# Altium footprint library Symbol.PcbLib: 206 footprints (part 8 of 15)
Each footprint in its own frame and in the unit in brackets; x right, y up, seen from the top. Pads: shape width x height; smd on the part's side, far side on the other; paste and mask are expansions set on the pad; w line width, h text height; cw(c..) or ccw(c..) is an arc to the next point about the centre after c.
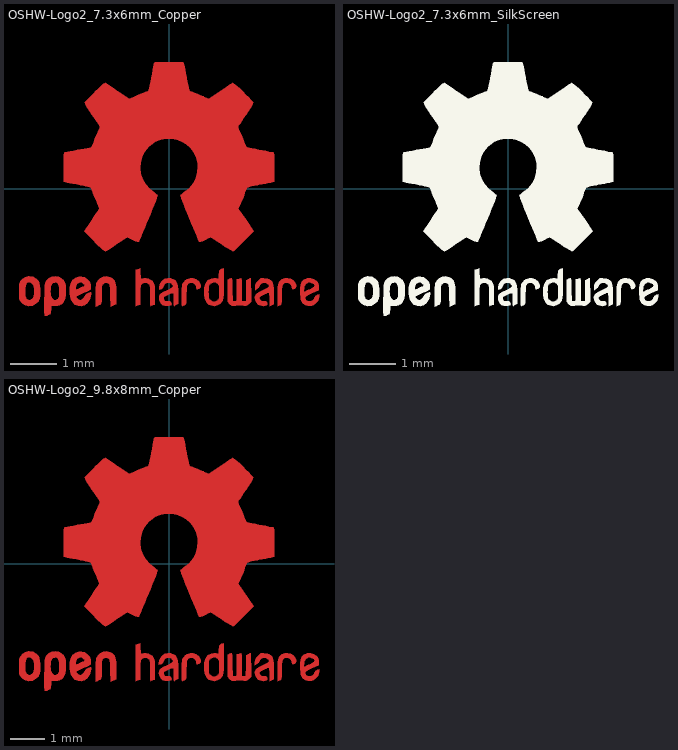
[diagram p7: the footprints below, top view; thin cyan lines are the x and y axes]

## LayerMarker_24_31.8x2.54mm_TextH1mm_P1.27mm_AlNum_LowerMirrored [mm]
F.Cu:
  text "1" at -0.319,0.57 h1
B.Cu:
  text "O" at 29.791,0.57 h1

## LayerMarker_26_34.3x2.54mm_TextH1mm_P1.27mm_AlNum [mm]
F.Cu:
  text "1" at -0.319,0.57 h1
B.Cu:
  text "Q" at 31.169,0.522 h1

## LayerMarker_26_34.3x2.54mm_TextH1mm_P1.27mm_AlNum_BottomMirrored [mm]
F.Cu:
  text "1" at -0.319,0.57 h1
B.Cu:
  text "Q" at 32.331,0.522 h1

## LayerMarker_26_34.3x2.54mm_TextH1mm_P1.27mm_AlNum_LowerMirrored [mm]
F.Cu:
  text "1" at -0.319,0.57 h1
B.Cu:
  text "Q" at 32.331,0.522 h1

## LayerMarker_28_36.8x2.54mm_TextH1mm_P1.27mm_AlNum [mm]
F.Cu:
  text "1" at -0.319,0.57 h1
B.Cu:
  text "S" at 33.757,0.57 h1

## LayerMarker_28_36.8x2.54mm_TextH1mm_P1.27mm_AlNum_BottomMirrored [mm]
F.Cu:
  text "1" at -0.319,0.57 h1
B.Cu:
  text "S" at 34.823,0.57 h1

## LayerMarker_28_36.8x2.54mm_TextH1mm_P1.27mm_AlNum_LowerMirrored [mm]
F.Cu:
  text "1" at -0.319,0.57 h1
B.Cu:
  text "S" at 34.823,0.57 h1

## LayerMarker_30_39.4x2.54mm_TextH1mm_P1.27mm_AlNum [mm]
F.Cu:
  text "1" at -0.319,0.57 h1
B.Cu:
  text "U" at 36.297,0.57 h1

## LayerMarker_30_39.4x2.54mm_TextH1mm_P1.27mm_AlNum_BottomMirrored [mm]
F.Cu:
  text "1" at -0.319,0.57 h1
B.Cu:
  text "U" at 37.363,0.57 h1

## LayerMarker_30_39.4x2.54mm_TextH1mm_P1.27mm_AlNum_LowerMirrored [mm]
F.Cu:
  text "1" at -0.319,0.57 h1
B.Cu:
  text "U" at 37.363,0.57 h1

## LayerMarker_32_41.9x2.54mm_TextH1mm_P1.27mm_AlNum [mm]
F.Cu:
  text "1" at -0.319,0.57 h1
B.Cu:
  text "W" at 38.694,0.57 h1

## LayerMarker_32_41.9x2.54mm_TextH1mm_P1.27mm_AlNum_BottomMirrored [mm]
F.Cu:
  text "1" at -0.319,0.57 h1
B.Cu:
  text "W" at 40.046,0.57 h1

## LayerMarker_32_41.9x2.54mm_TextH1mm_P1.27mm_AlNum_LowerMirrored [mm]
F.Cu:
  text "1" at -0.319,0.57 h1
B.Cu:
  text "W" at 40.046,0.57 h1

## OSHW-Logo2_7.3x6mm_Copper [mm]
F.Cu:
  region: 2.653,-1.959 2.67,-1.966 2.711,-1.999 2.747,-2.047 2.769,-2.097 2.772,-2.122 2.76,-2.157 2.734,-2.175 2.706,-2.187 2.693,-2.189 2.687,-2.174 2.674,-2.141 2.669,-2.127 2.639,-2.076 2.595,-2.05 2.538,-2.051 2.534,-2.052 2.504,-2.067 2.481,-2.094 2.466,-2.139 2.457,-2.205 2.453,-2.294 2.453,-2.341 2.453,-2.416 2.452,-2.467 2.448,-2.499 2.442,-2.518 2.432,-2.529 2.417,-2.537 2.416,-2.538 2.387,-2.55 2.372,-2.555 2.37,-2.541 2.368,-2.503 2.367,-2.446 2.366,-2.374 2.366,-2.322 2.367,-2.22 2.37,-2.143 2.377,-2.086 2.389,-2.045 2.407,-2.014 2.432,-1.99 2.457,-1.973 2.517,-1.951 2.587,-1.946
  region: -1.284,-1.928 -1.237,-1.955 -1.205,-1.981 -1.181,-2.009 -1.165,-2.044 -1.155,-2.089 -1.149,-2.151 -1.147,-2.234 -1.147,-2.293 -1.147,-2.512 -1.208,-2.54 -1.27,-2.568 -1.277,-2.328 -1.28,-2.238 -1.283,-2.173 -1.287,-2.128 -1.293,-2.099 -1.3,-2.081 -1.31,-2.07 -1.313,-2.067 -1.36,-2.048 -1.408,-2.056 -1.437,-2.076 -1.449,-2.09 -1.457,-2.108 -1.462,-2.136 -1.465,-2.179 -1.466,-2.242 -1.466,-2.307 -1.466,-2.389 -1.467,-2.447 -1.472,-2.486 -1.482,-2.512 -1.499,-2.528 -1.525,-2.541 -1.56,-2.554 -1.598,-2.569 -1.594,-2.311 -1.592,-2.219 -1.59,-2.15 -1.587,-2.101 -1.582,-2.066 -1.575,-2.042 -1.566,-2.022 -1.554,-2.005 -1.499,-1.95 -1.431,-1.918 -1.357,-1.91
  region: 0.53,-1.95 0.596,-1.974 0.649,-2.017 0.67,-2.047 0.693,-2.103 0.692,-2.143 0.669,-2.17 0.66,-2.175 0.622,-2.189 0.602,-2.185 0.595,-2.161 0.595,-2.148 0.583,-2.099 0.551,-2.065 0.508,-2.048 0.459,-2.053 0.419,-2.074 0.405,-2.087 0.396,-2.101 0.389,-2.124 0.385,-2.159 0.383,-2.212 0.381,-2.288 0.38,-2.312 0.378,-2.394 0.376,-2.451 0.372,-2.49 0.367,-2.513 0.359,-2.526 0.347,-2.535 0.339,-2.538 0.307,-2.55 0.288,-2.555 0.282,-2.541 0.278,-2.5 0.277,-2.431 0.278,-2.334 0.278,-2.319 0.28,-2.23 0.283,-2.165 0.286,-2.119 0.292,-2.087 0.3,-2.064 0.311,-2.044 0.317,-2.035 0.35,-1.998 0.388,-1.969 0.392,-1.966 0.459,-1.946
  region: -0.624,-1.851 -0.62,-1.911 -0.615,-1.946 -0.608,-1.961 -0.598,-1.961 -0.595,-1.959 -0.552,-1.946 -0.497,-1.947 -0.44,-1.96 -0.405,-1.978 -0.369,-2.006 -0.342,-2.038 -0.324,-2.078 -0.313,-2.132 -0.307,-2.204 -0.305,-2.299 -0.305,-2.317 -0.305,-2.523 -0.351,-2.539 -0.383,-2.549 -0.401,-2.554 -0.401,-2.555 -0.403,-2.541 -0.405,-2.503 -0.406,-2.446 -0.406,-2.375 -0.406,-2.332 -0.407,-2.247 -0.408,-2.186 -0.41,-2.144 -0.415,-2.117 -0.422,-2.098 -0.433,-2.085 -0.44,-2.078 -0.487,-2.051 -0.538,-2.049 -0.584,-2.072 -0.593,-2.08 -0.605,-2.095 -0.614,-2.114 -0.619,-2.14 -0.622,-2.18 -0.624,-2.238 -0.624,-2.318 -0.624,-2.523 -0.67,-2.539 -0.702,-2.549 -0.72,-2.554 -0.721,-2.555 -0.722,-2.541 -0.723,-2.501 -0.724,-2.441 -0.725,-2.362 -0.726,-2.269 -0.726,-2.167 -0.726,-1.769 -0.679,-1.749 -0.631,-1.73
  region: 1.78,-1.959 1.782,-1.997 1.784,-2.055 1.785,-2.128 1.785,-2.205 1.785,-2.465 1.739,-2.511 1.708,-2.539 1.68,-2.551 1.642,-2.55 1.627,-2.548 1.58,-2.543 1.541,-2.54 1.531,-2.54 1.499,-2.541 1.453,-2.546 1.436,-2.548 1.392,-2.552 1.363,-2.544 1.334,-2.521 1.323,-2.511 1.277,-2.465 1.277,-1.979 1.314,-1.962 1.346,-1.949 1.365,-1.945 1.369,-1.959 1.374,-1.997 1.378,-2.056 1.381,-2.132 1.382,-2.195 1.386,-2.446 1.421,-2.451 1.452,-2.447 1.468,-2.436 1.472,-2.415 1.476,-2.371 1.478,-2.309 1.48,-2.235 1.48,-2.197 1.48,-1.977 1.526,-1.961 1.559,-1.95 1.576,-1.945 1.577,-1.945 1.578,-1.959 1.58,-1.997 1.582,-2.054 1.584,-2.127 1.585,-2.195 1.589,-2.446 1.676,-2.446 1.68,-2.217 1.684,-1.989 1.727,-1.967 1.758,-1.952 1.777,-1.945
  region: -2.959,-1.922 -2.891,-1.958 -2.841,-2.015 -2.823,-2.052 -2.809,-2.108 -2.802,-2.178 -2.801,-2.255 -2.807,-2.33 -2.818,-2.394 -2.834,-2.441 -2.839,-2.449 -2.9,-2.509 -2.971,-2.545 -3.049,-2.555 -3.127,-2.539 -3.149,-2.529 -3.192,-2.499 -3.229,-2.459 -3.233,-2.454 -3.247,-2.43 -3.257,-2.404 -3.262,-2.37 -3.265,-2.321 -3.266,-2.251 -3.266,-2.235 -3.266,-2.23 -3.265,-2.16 -3.263,-2.108 -3.258,-2.072 -3.249,-2.045 -3.236,-2.022 -3.233,-2.017 -3.184,-1.958 -3.13,-1.924 -3.064,-1.91 -3.042,-1.91 hole: -3.037,-2.047 -3.073,-2.052 -3.097,-2.072 -3.112,-2.109 -3.119,-2.168 -3.121,-2.23 -3.12,-2.296 -3.116,-2.34 -3.109,-2.369 -3.098,-2.388 -3.092,-2.395 -3.057,-2.42 -3.023,-2.419 -2.989,-2.397 -2.969,-2.374 -2.957,-2.34 -2.95,-2.288 -2.949,-2.281 -2.948,-2.186 -2.96,-2.114 -2.985,-2.068 -3.023,-2.048
  region: 3.154,-1.967 3.211,-2.004 3.239,-2.038 3.261,-2.099 3.262,-2.147 3.258,-2.212 3.11,-2.277 3.037,-2.31 2.99,-2.337 2.966,-2.36 2.961,-2.383 2.975,-2.407 2.99,-2.424 3.034,-2.45 3.081,-2.452 3.125,-2.432 3.157,-2.391 3.163,-2.376 3.191,-2.331 3.222,-2.312 3.266,-2.296 3.266,-2.358 3.262,-2.4 3.247,-2.436 3.215,-2.477 3.211,-2.482 3.176,-2.519 3.145,-2.538 3.108,-2.547 3.076,-2.55 3.02,-2.551 2.981,-2.542 2.956,-2.528 2.917,-2.497 2.89,-2.465 2.873,-2.423 2.863,-2.368 2.86,-2.291 2.859,-2.253 2.86,-2.206 2.861,-2.162 2.868,-2.095 2.882,-2.047 2.904,-2.011 2.937,-1.983 2.951,-1.973 3.015,-1.95 3.085,-1.948 hole: 3.079,-2.046 3.03,-2.05 2.989,-2.078 2.961,-2.127 2.952,-2.166 2.948,-2.206 2.949,-2.231 2.952,-2.235 2.968,-2.23 3.004,-2.215 3.052,-2.194 3.062,-2.19 3.123,-2.159 3.157,-2.132 3.164,-2.106 3.146,-2.08 3.132,-2.069
  region: 1.19,-2.065 1.19,-2.174 1.189,-2.257 1.188,-2.32 1.185,-2.365 1.181,-2.397 1.175,-2.421 1.167,-2.439 1.161,-2.449 1.112,-2.506 1.049,-2.541 0.98,-2.554 0.911,-2.542 0.869,-2.522 0.826,-2.485 0.796,-2.441 0.779,-2.383 0.77,-2.306 0.769,-2.25 0.769,-2.246 0.773,-2.159 0.785,-2.09 0.807,-2.039 0.842,-1.998 0.869,-1.978 0.919,-1.956 0.976,-1.945 1.03,-1.948 1.06,-1.959 1.071,-1.962 1.079,-1.951 1.084,-1.919 1.089,-1.871 1.093,-1.817 1.099,-1.784 1.111,-1.766 1.131,-1.754 1.143,-1.748 1.19,-1.729 hole: 0.962,-2.049 0.914,-2.07 0.904,-2.078 0.889,-2.096 0.879,-2.117 0.873,-2.148 0.871,-2.196 0.871,-2.246 0.871,-2.311 0.874,-2.354 0.881,-2.382 0.893,-2.402 0.906,-2.417 0.953,-2.447 1.004,-2.449 1.051,-2.425 1.055,-2.421 1.071,-2.404 1.081,-2.383 1.086,-2.352 1.088,-2.305 1.089,-2.252 1.088,-2.185 1.085,-2.141 1.078,-2.112 1.066,-2.091 1.057,-2.08 1.013,-2.052
  region: -1.832,-1.931 -1.774,-1.97 -1.73,-2.025 -1.704,-2.096 -1.698,-2.148 -1.699,-2.17 -1.704,-2.187 -1.718,-2.201 -1.745,-2.218 -1.79,-2.239 -1.857,-2.269 -1.858,-2.27 -1.92,-2.298 -1.97,-2.323 -2.005,-2.342 -2.017,-2.353 -2.006,-2.376 -1.98,-2.402 -1.949,-2.42 -1.934,-2.424 -1.891,-2.411 -1.855,-2.379 -1.837,-2.345 -1.82,-2.319 -1.787,-2.29 -1.748,-2.264 -1.713,-2.25 -1.706,-2.25 -1.698,-2.262 -1.697,-2.294 -1.703,-2.337 -1.715,-2.383 -1.73,-2.423 -1.731,-2.424 -1.777,-2.489 -1.837,-2.533 -1.906,-2.555 -1.976,-2.552 -2.044,-2.524 -2.047,-2.522 -2.101,-2.473 -2.136,-2.41 -2.155,-2.327 -2.158,-2.304 -2.162,-2.194 -2.157,-2.143 -2.153,-2.106 -2.128,-2.036 -2.095,-1.987 -2.033,-1.938 -1.966,-1.913 -1.897,-1.912 hole: -1.946,-2.048 -1.984,-2.067 -2.01,-2.103 -2.017,-2.143 -2.016,-2.175 -2.006,-2.184 -1.981,-2.177 -1.942,-2.161 -1.899,-2.14 -1.898,-2.139 -1.861,-2.12 -1.846,-2.107 -1.85,-2.093 -1.865,-2.076 -1.904,-2.05
  region: 0.04,-1.951 0.097,-1.972 0.132,-1.998 0.158,-2.029 0.177,-2.068 0.189,-2.121 0.196,-2.194 0.2,-2.289 0.201,-2.303 0.206,-2.509 0.162,-2.532 0.13,-2.547 0.11,-2.554 0.11,-2.555 0.106,-2.541 0.104,-2.505 0.102,-2.451 0.102,-2.408 0.102,-2.339 0.098,-2.295 0.087,-2.274 0.064,-2.273 0.022,-2.289 -0.04,-2.318 -0.086,-2.342 -0.109,-2.363 -0.116,-2.386 -0.116,-2.387 -0.105,-2.426 -0.071,-2.447 -0.019,-2.451 0.018,-2.45 0.038,-2.461 0.05,-2.487 0.057,-2.519 0.047,-2.538 0.043,-2.541 0.007,-2.551 -0.043,-2.553 -0.095,-2.546 -0.132,-2.533 -0.183,-2.49 -0.212,-2.429 -0.218,-2.382 -0.213,-2.34 -0.198,-2.305 -0.166,-2.275 -0.115,-2.244 -0.041,-2.209 -0.036,-2.207 0.031,-2.176 0.072,-2.151 0.09,-2.128 0.086,-2.105 0.063,-2.078 0.056,-2.072 0.009,-2.048 -0.04,-2.049 -0.082,-2.072 -0.111,-2.116 -0.113,-2.124 -0.139,-2.165 -0.171,-2.185 -0.218,-2.205 -0.218,-2.154 -0.204,-2.08 -0.161,-2.012 -0.139,-1.99 -0.089,-1.961 -0.026,-1.947
  region: -2.4,-1.92 -2.345,-1.948 -2.296,-1.998 -2.282,-2.017 -2.268,-2.042 -2.258,-2.069 -2.253,-2.105 -2.25,-2.156 -2.25,-2.224 -2.252,-2.318 -2.261,-2.388 -2.277,-2.44 -2.303,-2.48 -2.34,-2.513 -2.342,-2.515 -2.379,-2.535 -2.422,-2.545 -2.478,-2.547 -2.569,-2.547 -2.569,-2.635 -2.57,-2.684 -2.575,-2.713 -2.588,-2.73 -2.614,-2.745 -2.62,-2.748 -2.649,-2.762 -2.672,-2.77 -2.688,-2.771 -2.7,-2.761 -2.707,-2.737 -2.712,-2.696 -2.713,-2.636 -2.713,-2.553 -2.712,-2.445 -2.711,-2.413 -2.71,-2.302 -2.709,-2.229 -2.708,-2.215 -2.706,-2.15 -2.704,-2.103 -2.7,-2.069 -2.694,-2.045 -2.687,-2.028 -2.677,-2.012 -2.673,-2.006 -2.619,-1.951 -2.55,-1.92 -2.47,-1.911 hole: -2.476,-2.047 -2.516,-2.054 -2.544,-2.078 -2.561,-2.123 -2.568,-2.191 -2.569,-2.229 -2.568,-2.29 -2.565,-2.331 -2.557,-2.358 -2.543,-2.378 -2.533,-2.388 -2.495,-2.418 -2.46,-2.42 -2.425,-2.396 -2.424,-2.395 -2.409,-2.376 -2.401,-2.351 -2.396,-2.312 -2.395,-2.252 -2.395,-2.238 -2.398,-2.156 -2.409,-2.099 -2.429,-2.064 -2.458,-2.048
  region: 2.145,-1.956 2.187,-1.975 2.219,-1.998 2.244,-2.024 2.26,-2.057 2.271,-2.103 2.276,-2.165 2.279,-2.249 2.279,-2.305 2.279,-2.521 2.242,-2.538 2.213,-2.55 2.198,-2.555 2.195,-2.541 2.193,-2.505 2.192,-2.452 2.192,-2.409 2.19,-2.348 2.187,-2.3 2.182,-2.271 2.178,-2.264 2.153,-2.271 2.112,-2.287 2.066,-2.309 2.021,-2.333 1.986,-2.355 1.97,-2.37 1.971,-2.397 1.984,-2.423 2.006,-2.444 2.038,-2.451 2.065,-2.451 2.104,-2.45 2.124,-2.459 2.136,-2.483 2.138,-2.488 2.143,-2.522 2.129,-2.543 2.092,-2.552 2.052,-2.554 1.981,-2.541 1.943,-2.521 1.898,-2.476 1.873,-2.42 1.871,-2.361 1.892,-2.306 1.923,-2.271 1.953,-2.252 2.002,-2.228 2.058,-2.203 2.068,-2.199 2.13,-2.172 2.166,-2.148 2.177,-2.124 2.167,-2.097 2.148,-2.076 2.104,-2.05 2.056,-2.048 2.012,-2.068 1.981,-2.108 1.977,-2.118 1.952,-2.156 1.917,-2.184 1.872,-2.207 1.872,-2.141 1.875,-2.102 1.886,-2.07 1.911,-2.036 1.935,-2.01 1.972,-1.974 2.001,-1.954 2.033,-1.946 2.068,-1.945
  region: 347 vertices and 0 holes, not listed, extent -2.293,-1.364 2.293,2.758

## OSHW-Logo2_7.3x6mm_SilkScreen [mm]
F.SilkS:
  drawing of 13 lines, arcs and shapes, not listed

## OSHW-Logo2_9.8x8mm_Copper [mm]
F.Cu:
  region: 3.571,-2.637 3.594,-2.647 3.65,-2.691 3.698,-2.755 3.727,-2.823 3.732,-2.857 3.716,-2.904 3.68,-2.928 3.643,-2.943 3.625,-2.946 3.617,-2.926 3.6,-2.882 3.593,-2.863 3.552,-2.794 3.493,-2.76 3.417,-2.761 3.411,-2.763 3.37,-2.782 3.34,-2.819 3.32,-2.88 3.308,-2.968 3.303,-3.088 3.302,-3.152 3.302,-3.252 3.3,-3.321 3.296,-3.365 3.287,-3.39 3.274,-3.405 3.253,-3.416 3.252,-3.416 3.213,-3.433 3.194,-3.439 3.191,-3.42 3.188,-3.369 3.186,-3.292 3.185,-3.196 3.185,-3.125 3.186,-2.989 3.19,-2.885 3.2,-2.808 3.216,-2.752 3.24,-2.711 3.274,-2.679 3.308,-2.656 3.388,-2.626 3.482,-2.62
  region: -1.728,-2.595 -1.666,-2.631 -1.622,-2.667 -1.59,-2.705 -1.568,-2.751 -1.554,-2.812 -1.547,-2.895 -1.544,-3.007 -1.544,-3.087 -1.544,-3.382 -1.71,-3.457 -1.719,-3.133 -1.723,-3.013 -1.728,-2.925 -1.733,-2.865 -1.74,-2.825 -1.75,-2.801 -1.763,-2.786 -1.767,-2.783 -1.831,-2.757 -1.896,-2.767 -1.934,-2.794 -1.95,-2.813 -1.961,-2.838 -1.968,-2.876 -1.972,-2.934 -1.973,-3.018 -1.973,-3.106 -1.973,-3.216 -1.975,-3.294 -1.982,-3.347 -1.995,-3.381 -2.018,-3.404 -2.053,-3.421 -2.1,-3.439 -2.152,-3.458 -2.146,-3.111 -2.143,-2.986 -2.14,-2.894 -2.136,-2.828 -2.13,-2.781 -2.121,-2.748 -2.108,-2.722 -2.092,-2.699 -2.018,-2.625 -1.926,-2.582 -1.827,-2.571
  region: 0.713,-2.625 0.802,-2.657 0.874,-2.715 0.902,-2.756 0.933,-2.831 0.932,-2.885 0.9,-2.921 0.888,-2.928 0.837,-2.947 0.81,-2.942 0.802,-2.91 0.801,-2.892 0.785,-2.826 0.742,-2.78 0.683,-2.758 0.617,-2.763 0.564,-2.792 0.546,-2.809 0.533,-2.829 0.524,-2.859 0.519,-2.907 0.515,-2.978 0.512,-3.08 0.511,-3.112 0.509,-3.222 0.506,-3.3 0.501,-3.351 0.494,-3.383 0.483,-3.401 0.467,-3.412 0.457,-3.417 0.413,-3.433 0.388,-3.439 0.379,-3.421 0.374,-3.365 0.372,-3.272 0.374,-3.141 0.374,-3.121 0.377,-3.002 0.381,-2.914 0.386,-2.853 0.393,-2.809 0.404,-2.778 0.419,-2.751 0.427,-2.74 0.472,-2.69 0.522,-2.651 0.528,-2.647 0.618,-2.62
  region: -0.84,-2.492 -0.834,-2.572 -0.828,-2.619 -0.819,-2.64 -0.805,-2.64 -0.801,-2.637 -0.744,-2.62 -0.669,-2.621 -0.593,-2.639 -0.545,-2.663 -0.496,-2.7 -0.461,-2.743 -0.436,-2.797 -0.421,-2.869 -0.413,-2.966 -0.41,-3.095 -0.41,-3.119 -0.41,-3.396 -0.472,-3.417 -0.516,-3.432 -0.54,-3.439 -0.543,-3.42 -0.545,-3.37 -0.546,-3.293 -0.547,-3.197 -0.547,-3.139 -0.547,-3.025 -0.549,-2.943 -0.552,-2.886 -0.558,-2.849 -0.568,-2.825 -0.583,-2.806 -0.592,-2.797 -0.655,-2.761 -0.724,-2.759 -0.786,-2.789 -0.798,-2.8 -0.815,-2.821 -0.826,-2.845 -0.834,-2.881 -0.838,-2.934 -0.84,-3.012 -0.84,-3.121 -0.84,-3.396 -0.902,-3.417 -0.945,-3.432 -0.969,-3.439 -0.97,-3.439 -0.972,-3.42 -0.974,-3.367 -0.975,-3.286 -0.976,-3.18 -0.977,-3.055 -0.977,-2.916 -0.977,-2.382 -0.85,-2.328
  region: 2.396,-2.637 2.399,-2.688 2.401,-2.766 2.403,-2.865 2.403,-2.968 2.403,-3.319 2.341,-3.38 2.299,-3.418 2.261,-3.434 2.21,-3.433 2.19,-3.43 2.127,-3.423 2.074,-3.419 2.061,-3.419 2.018,-3.421 1.957,-3.427 1.933,-3.43 1.874,-3.435 1.834,-3.425 1.795,-3.394 1.781,-3.38 1.719,-3.319 1.719,-2.664 1.769,-2.641 1.812,-2.624 1.837,-2.618 1.844,-2.637 1.85,-2.689 1.855,-2.768 1.859,-2.87 1.861,-2.955 1.866,-3.292 1.913,-3.299 1.955,-3.294 1.976,-3.279 1.982,-3.251 1.987,-3.192 1.99,-3.108 1.992,-3.009 1.993,-2.957 1.993,-2.661 2.054,-2.64 2.098,-2.625 2.122,-2.618 2.125,-2.637 2.127,-2.688 2.13,-2.766 2.132,-2.864 2.134,-2.955 2.139,-3.292 2.257,-3.292 2.262,-2.985 2.267,-2.677 2.325,-2.648 2.367,-2.627 2.392,-2.618
  region: -3.983,-2.587 -3.892,-2.635 -3.824,-2.713 -3.8,-2.763 -3.781,-2.838 -3.772,-2.932 -3.771,-3.035 -3.778,-3.136 -3.793,-3.223 -3.815,-3.286 -3.822,-3.297 -3.903,-3.377 -4,-3.425 -4.104,-3.439 -4.21,-3.418 -4.239,-3.405 -4.297,-3.364 -4.347,-3.311 -4.352,-3.304 -4.371,-3.271 -4.384,-3.236 -4.391,-3.19 -4.395,-3.125 -4.396,-3.03 -4.396,-3.009 -4.396,-3.002 -4.395,-2.908 -4.392,-2.838 -4.386,-2.789 -4.374,-2.753 -4.356,-2.722 -4.352,-2.716 -4.286,-2.636 -4.213,-2.59 -4.125,-2.572 -4.095,-2.571 hole: -4.088,-2.755 -4.136,-2.763 -4.169,-2.789 -4.189,-2.839 -4.199,-2.919 -4.201,-3.002 -4.2,-3.091 -4.195,-3.151 -4.186,-3.189 -4.17,-3.215 -4.162,-3.224 -4.115,-3.257 -4.07,-3.256 -4.024,-3.227 -3.996,-3.196 -3.98,-3.151 -3.971,-3.079 -3.97,-3.071 -3.969,-2.942 -3.985,-2.846 -4.019,-2.784 -4.07,-2.756
  region: 4.245,-2.648 4.323,-2.698 4.36,-2.744 4.389,-2.826 4.392,-2.891 4.386,-2.977 4.186,-3.065 4.089,-3.11 4.025,-3.146 3.992,-3.177 3.986,-3.207 4.005,-3.241 4.025,-3.263 4.084,-3.298 4.148,-3.301 4.207,-3.273 4.25,-3.218 4.258,-3.199 4.295,-3.138 4.338,-3.113 4.396,-3.09 4.396,-3.174 4.391,-3.231 4.371,-3.279 4.328,-3.334 4.322,-3.342 4.275,-3.391 4.234,-3.417 4.183,-3.429 4.141,-3.433 4.066,-3.434 4.012,-3.421 3.979,-3.403 3.926,-3.362 3.89,-3.318 3.867,-3.262 3.854,-3.187 3.85,-3.084 3.849,-3.032 3.851,-2.97 3.852,-2.911 3.861,-2.821 3.879,-2.755 3.909,-2.707 3.953,-2.669 3.972,-2.656 4.059,-2.624 4.154,-2.622 hole: 4.145,-2.755 4.079,-2.76 4.024,-2.797 3.986,-2.863 3.973,-2.916 3.968,-2.97 3.97,-3.003 3.973,-3.009 3.996,-3.001 4.044,-2.982 4.109,-2.954 4.122,-2.948 4.204,-2.906 4.249,-2.87 4.259,-2.835 4.236,-2.801 4.216,-2.785
  region: 1.602,-2.78 1.602,-2.926 1.601,-3.039 1.599,-3.123 1.595,-3.184 1.59,-3.227 1.582,-3.259 1.571,-3.283 1.563,-3.297 1.497,-3.373 1.412,-3.421 1.319,-3.438 1.226,-3.423 1.17,-3.394 1.112,-3.346 1.072,-3.286 1.048,-3.209 1.037,-3.105 1.036,-3.028 1.036,-3.023 1.04,-2.906 1.056,-2.814 1.087,-2.744 1.134,-2.69 1.17,-2.663 1.237,-2.633 1.314,-2.619 1.386,-2.622 1.426,-2.637 1.442,-2.642 1.453,-2.626 1.46,-2.583 1.465,-2.518 1.471,-2.446 1.48,-2.402 1.495,-2.377 1.522,-2.361 1.539,-2.354 1.602,-2.327 hole: 1.295,-2.758 1.23,-2.787 1.218,-2.797 1.196,-2.821 1.183,-2.849 1.176,-2.891 1.173,-2.956 1.172,-3.023 1.173,-3.11 1.177,-3.168 1.186,-3.206 1.201,-3.233 1.22,-3.254 1.283,-3.294 1.351,-3.297 1.415,-3.264 1.42,-3.26 1.441,-3.236 1.455,-3.208 1.462,-3.167 1.465,-3.102 1.465,-3.031 1.464,-2.942 1.46,-2.882 1.451,-2.843 1.436,-2.815 1.423,-2.8 1.364,-2.763
  region: -2.466,-2.6 -2.389,-2.652 -2.329,-2.726 -2.294,-2.822 -2.286,-2.892 -2.287,-2.921 -2.294,-2.943 -2.313,-2.963 -2.35,-2.986 -2.41,-3.015 -2.5,-3.055 -2.501,-3.055 -2.584,-3.093 -2.652,-3.127 -2.698,-3.153 -2.716,-3.167 -2.701,-3.199 -2.665,-3.233 -2.624,-3.258 -2.603,-3.263 -2.546,-3.246 -2.497,-3.203 -2.474,-3.156 -2.451,-3.122 -2.406,-3.082 -2.353,-3.048 -2.306,-3.029 -2.297,-3.028 -2.286,-3.045 -2.285,-3.088 -2.293,-3.146 -2.308,-3.207 -2.329,-3.261 -2.33,-3.264 -2.392,-3.351 -2.473,-3.41 -2.565,-3.439 -2.66,-3.436 -2.752,-3.397 -2.756,-3.395 -2.828,-3.33 -2.875,-3.245 -2.901,-3.133 -2.905,-3.102 -2.911,-2.954 -2.903,-2.884 -2.898,-2.835 -2.865,-2.741 -2.82,-2.675 -2.737,-2.609 -2.646,-2.576 -2.554,-2.574 hole: -2.62,-2.757 -2.671,-2.782 -2.706,-2.831 -2.716,-2.884 -2.713,-2.928 -2.7,-2.94 -2.667,-2.931 -2.615,-2.908 -2.556,-2.881 -2.555,-2.88 -2.505,-2.854 -2.485,-2.836 -2.49,-2.818 -2.511,-2.794 -2.563,-2.759
  region: 0.054,-2.626 0.13,-2.655 0.131,-2.655 0.178,-2.69 0.213,-2.731 0.238,-2.784 0.254,-2.856 0.264,-2.953 0.27,-3.082 0.27,-3.1 0.277,-3.377 0.218,-3.408 0.175,-3.429 0.149,-3.439 0.148,-3.439 0.143,-3.421 0.139,-3.372 0.137,-3.3 0.137,-3.242 0.137,-3.148 0.132,-3.089 0.118,-3.061 0.085,-3.06 0.03,-3.081 -0.054,-3.12 -0.115,-3.153 -0.147,-3.181 -0.156,-3.212 -0.156,-3.213 -0.141,-3.266 -0.095,-3.295 -0.026,-3.299 0.024,-3.298 0.051,-3.313 0.067,-3.347 0.077,-3.391 0.063,-3.416 0.058,-3.42 0.009,-3.434 -0.058,-3.437 -0.128,-3.427 -0.178,-3.41 -0.246,-3.351 -0.285,-3.27 -0.293,-3.207 -0.287,-3.15 -0.266,-3.104 -0.224,-3.062 -0.155,-3.021 -0.055,-2.974 -0.049,-2.971 0.041,-2.93 0.097,-2.895 0.121,-2.865 0.116,-2.833 0.084,-2.797 0.075,-2.789 0.012,-2.757 -0.054,-2.758 -0.111,-2.79 -0.149,-2.848 -0.152,-2.859 -0.187,-2.915 -0.23,-2.942 -0.293,-2.968 -0.293,-2.9 -0.274,-2.8 -0.217,-2.709 -0.188,-2.678 -0.12,-2.639 -0.035,-2.622
  region: -3.231,-2.585 -3.156,-2.622 -3.091,-2.69 -3.072,-2.716 -3.053,-2.749 -3.04,-2.785 -3.032,-2.833 -3.029,-2.903 -3.028,-2.994 -3.032,-3.12 -3.043,-3.214 -3.065,-3.285 -3.1,-3.338 -3.149,-3.383 -3.153,-3.385 -3.202,-3.412 -3.261,-3.426 -3.336,-3.429 -3.458,-3.429 -3.458,-3.547 -3.459,-3.613 -3.466,-3.652 -3.484,-3.675 -3.519,-3.695 -3.527,-3.699 -3.566,-3.718 -3.596,-3.729 -3.619,-3.73 -3.635,-3.717 -3.645,-3.685 -3.65,-3.63 -3.652,-3.549 -3.652,-3.437 -3.65,-3.292 -3.65,-3.248 -3.648,-3.098 -3.646,-3 -3.646,-2.982 -3.643,-2.895 -3.639,-2.831 -3.634,-2.786 -3.627,-2.754 -3.617,-2.73 -3.604,-2.709 -3.598,-2.701 -3.525,-2.627 -3.432,-2.584 -3.325,-2.573 hole: -3.332,-2.755 -3.387,-2.765 -3.425,-2.798 -3.447,-2.858 -3.457,-2.95 -3.458,-3 -3.457,-3.083 -3.453,-3.138 -3.442,-3.174 -3.423,-3.201 -3.41,-3.215 -3.358,-3.254 -3.312,-3.258 -3.264,-3.225 -3.263,-3.224 -3.244,-3.199 -3.232,-3.164 -3.226,-3.112 -3.224,-3.031 -3.224,-3.013 -3.228,-2.902 -3.243,-2.825 -3.269,-2.778 -3.309,-2.757
  region: 2.887,-2.634 2.944,-2.659 2.988,-2.69 3.02,-2.725 3.042,-2.77 3.057,-2.831 3.064,-2.915 3.067,-3.028 3.068,-3.103 3.068,-3.393 3.018,-3.416 2.979,-3.433 2.959,-3.439 2.955,-3.421 2.952,-3.372 2.951,-3.3 2.95,-3.243 2.949,-3.161 2.944,-3.096 2.938,-3.056 2.933,-3.048 2.898,-3.057 2.844,-3.079 2.781,-3.109 2.72,-3.141 2.674,-3.17 2.652,-3.19 2.654,-3.227 2.671,-3.262 2.7,-3.291 2.743,-3.3 2.78,-3.299 2.832,-3.298 2.859,-3.31 2.876,-3.343 2.878,-3.349 2.885,-3.395 2.866,-3.423 2.816,-3.436 2.763,-3.438 2.666,-3.42 2.616,-3.394 2.554,-3.333 2.522,-3.258 2.519,-3.178 2.546,-3.104 2.588,-3.058 2.63,-3.032 2.695,-2.999 2.771,-2.966 2.784,-2.96 2.867,-2.924 2.916,-2.891 2.931,-2.859 2.917,-2.822 2.892,-2.794 2.833,-2.759 2.768,-2.756 2.709,-2.783 2.666,-2.837 2.661,-2.851 2.628,-2.902 2.581,-2.94 2.52,-2.971 2.52,-2.883 2.524,-2.829 2.539,-2.787 2.573,-2.741 2.605,-2.706 2.655,-2.657 2.694,-2.631 2.736,-2.62 2.783,-2.618
  region: 346 vertices and 0 holes, not listed, extent -3.087,-1.837 3.087,3.712